# EAGLE library part TI-OPA2673 (library EagleLibrary)
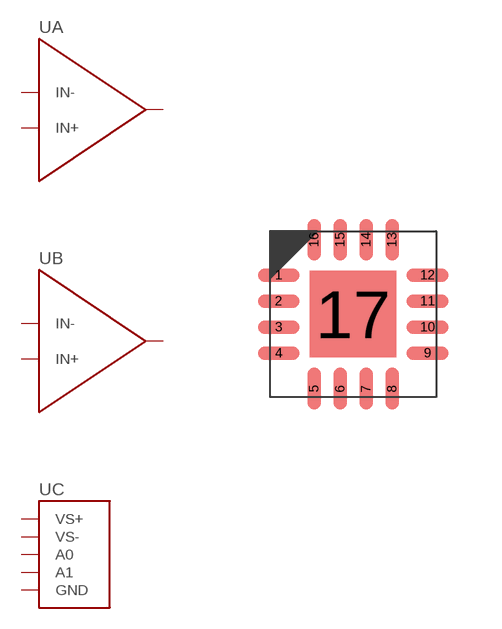
[diagram p24: symbol with the pads of TI-OPA2673; footprint TI-OPA2673]

Designator prefix U; gates A=TI-OPA2673-A B=TI-OPA2673-A C=TI-OPA2673-B

## TI-OPA2673 (MFG: Texas Instruments)  [TI-OPA2673]
2  A:IN-
3  A:IN+
4  C:GND
7  C:VS-
8  C:A0
9  C:A1
10  B:IN+
11  B:IN-
13  B:OUT
14  C:VS+
16  A:OUT
17  C:VS-

## Footprint TI-OPA2673 (pad centres in mm)
16-QFN, 0.65 mm pitch, 4.00 X 4.00 X 1.00 mm body, 2.16 X 2.16 mm thermal pad 16-pin QFN package with 0.65 mm pitch with body size 4.00 X 4.00 X 1.00 mm and thermal pad size 2.16 X 2.16 mm
smd 1.046 x 0.337: 1 -1.862,0.975; 2 -1.862,0.325; 3 -1.862,-0.325; 4 -1.862,-0.975; 9 1.862,-0.975; 10 1.862,-0.325; 11 1.862,0.325; 12 1.862,0.975
smd 0.337 x 1.046: 5 -0.975,-1.862; 6 -0.325,-1.862; 7 0.325,-1.862; 8 0.975,-1.862; 13 0.975,1.862; 14 0.325,1.862; 15 -0.325,1.862; 16 -0.975,1.862
smd 2.16 x 2.16: 17 0,0